# Altium footprint library Maxim Footprints.PcbLib: 105 footprints (part 5 of 7)
Each footprint in its own frame and in the unit in brackets; x right, y up, seen from the top. Pads: shape width x height; smd on the part's side, far side on the other; paste and mask are expansions set on the pad; w line width, h text height; cw(c..) or ccw(c..) is an arc to the next point about the centre after c.
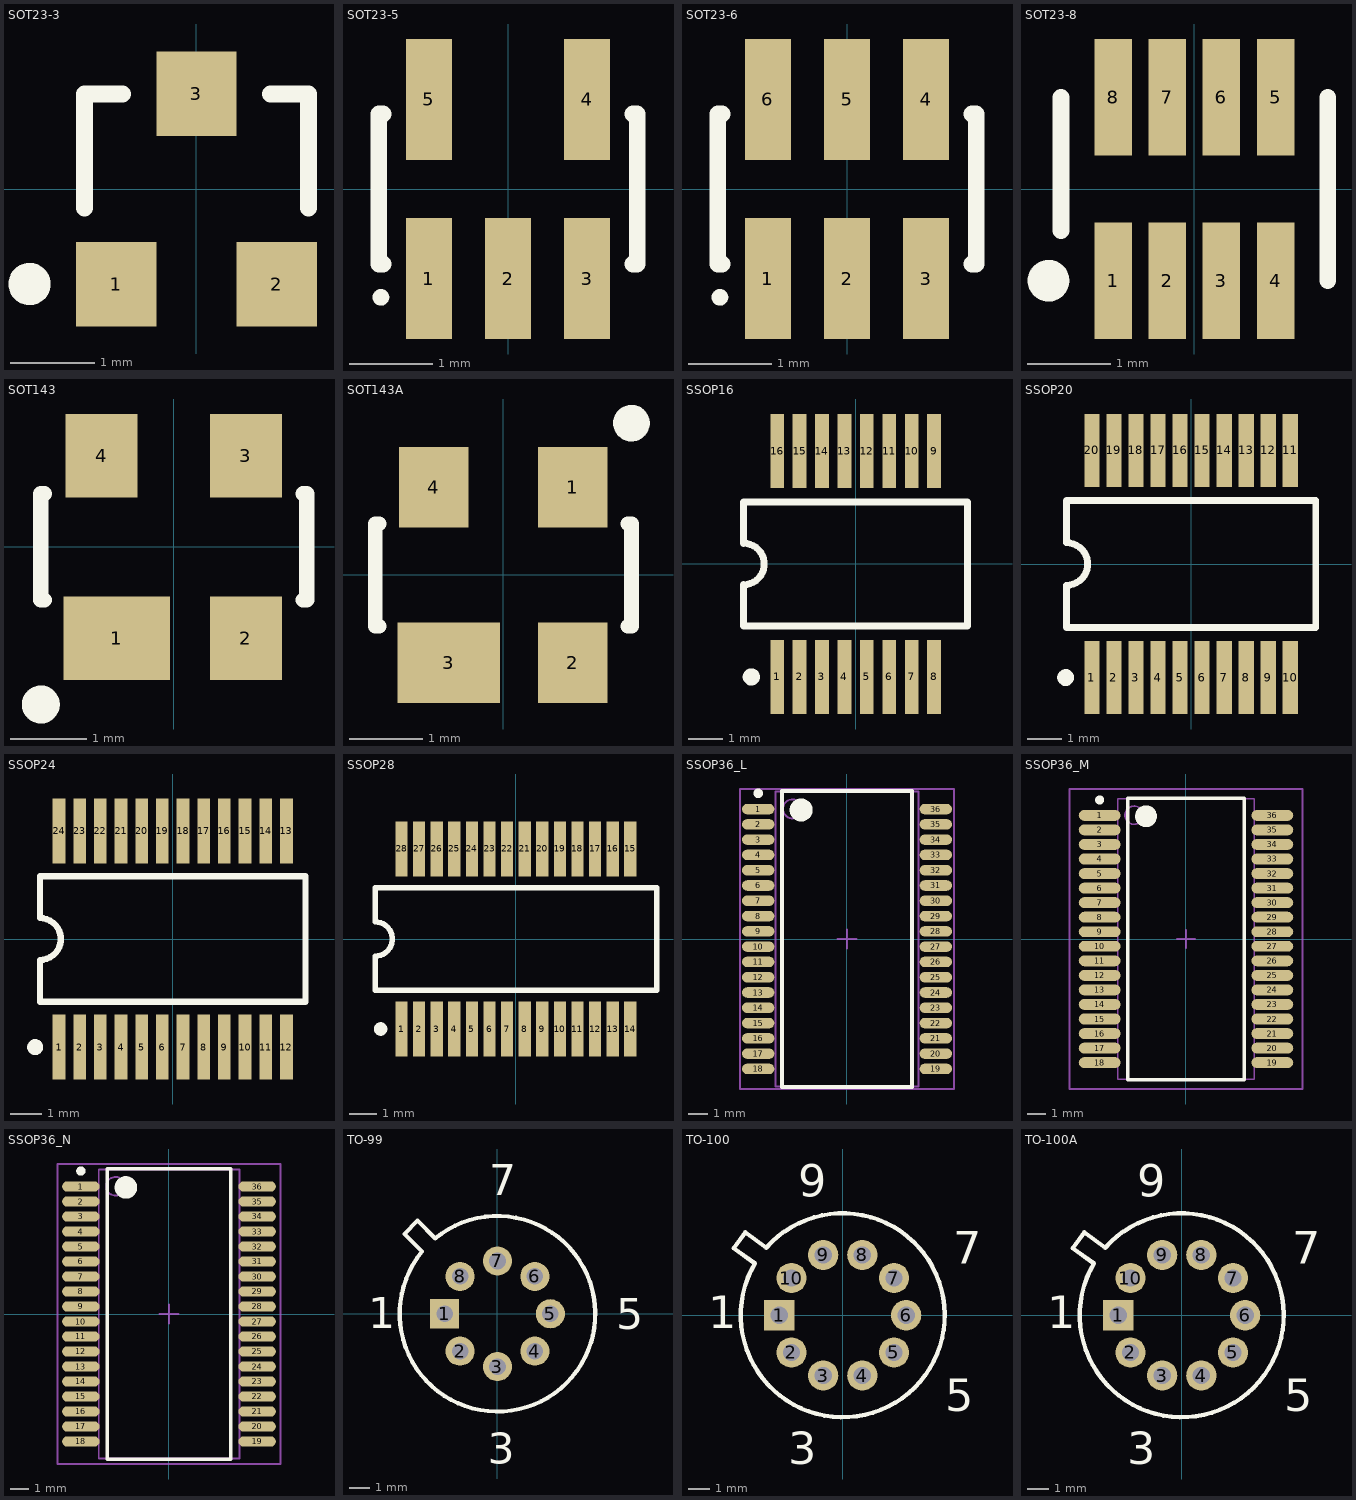
[diagram p4: the footprints below, top view; thin cyan lines are the x and y axes]

## SOT23-3 [mm] "SOT-23; 3 Leads; Body 3.0 x 2.5 mm, inc. leads (LxW max)"
height 1.2
pads (3):
  rect 0.95x1 smd: 1(-0.95,-1.125) 2(0.95,-1.125) 3(0,1.125)
Top Overlay:
  circle w0.25: c-1.975,-1.125 r0.125
  lines w0.2: -1.328,1.125 -0.875,1.125 ; -1.325,-0.225 -1.325,1.125 ; 0.875,1.125 1.325,1.125 1.325,-0.225

## SOT23-5 [mm] "SOT-23/SC-74A; 5 Leads; Body 3 x 3 mm, inc. leads (LxW max)"
height 1.45
pads (5):
  rect 0.55x1.45 smd: 1(-0.95,-1.075) 2(0,-1.075) 3(0.95,-1.075) 4(0.95,1.075) 5(-0.95,1.075)
Top Overlay:
  circle w0.1: c-1.525,-1.3 r0.05
  lines w0.2: -1.5,-0.9 -1.55,-0.9 -1.55,0.9 -1.5,0.9 ; 1.5,-0.9 1.55,-0.9 1.55,0.9 1.5,0.9

## SOT23-6 [mm] "SOT-457/SC-74; 6 Leads; Body 3 x 3 mm, inc. leads (LxW max)"
height 1.45
pads (6):
  rect 0.55x1.45 smd: 1(-0.95,-1.075) 2(0,-1.075) 3(0.95,-1.075) 4(0.95,1.075) 5(0,1.075) 6(-0.95,1.075)
Top Overlay:
  circle w0.1: c-1.525,-1.3 r0.05
  lines w0.2: -1.5,-0.9 -1.55,-0.9 -1.55,0.9 -1.5,0.9 ; 1.5,-0.9 1.55,-0.9 1.55,0.9 1.5,0.9

## SOT23-8 [mm] "SSOP; 8 Leads; Body Width 1.6 mm; Pitch 0.65 mm"
height 1.45
pads (8):
  rect 0.45x1.4 smd: 1(-0.975,-1.1) 2(-0.325,-1.1) 3(0.325,-1.1) 4(0.975,-1.1) 5(0.975,1.1) 6(0.325,1.1) 7(-0.325,1.1) 8(-0.975,1.1)
Top Overlay:
  circle w0.25: c-1.75,-1.1 r0.125
  lines w0.2: -1.6,-0.5 -1.6,1.1 ; 1.6,-1.1 1.6,1.1

## SOT143 [mm] "SOT-143; 4 Leads; Body 3 x 2.5 mm, inc. leads (LxW max)"
height 1.2
pads (4):
  rect 1.4x1.1 smd: 1(-0.75,-1.2)
  rect 0.95x1.1 smd: 2(0.95,-1.2) 3(0.95,1.2) 4(-0.95,1.2)
Top Overlay:
  circle w0.25: c-1.75,-2.075 r0.125
  lines w0.2: -1.7,-0.7 -1.75,-0.7 -1.75,0.7 -1.7,0.7 ; 1.7,-0.7 1.75,-0.7 1.75,0.7 1.7,0.7

## SOT143A [mm] "SOT-143; 4 Leads; Body 3 x 2.5 mm, inc. leads (LxW max)"
height 1.2
pads (4):
  rect 0.95x1.1 smd: 1(0.95,1.2) 2(0.95,-1.2) 4(-0.95,1.2)
  rect 1.4x1.1 smd: 3(-0.75,-1.2)
Top Overlay:
  circle w0.25: c1.75,2.075 r0.125
  lines w0.2: -1.7,-0.7 -1.75,-0.7 -1.75,0.7 -1.7,0.7 ; 1.7,-0.7 1.75,-0.7 1.75,0.7 1.7,0.7

## SSOP16 [mm] "SSOP; 16 Leads; Body Width 5.3 mm; Pitch 0.65 mm"
height 1.99
pads (16):
  rect 0.4x2.15 smd: 1(-2.275,-3.275) 2(-1.625,-3.275) 3(-0.975,-3.275) 4(-0.325,-3.275) 5(0.325,-3.275) 6(0.975,-3.275) 7(1.625,-3.275) 8(2.275,-3.275) 9(2.275,3.275) 10(1.625,3.275) 11(0.975,3.275) 12(0.325,3.275) 13(-0.325,3.275) 14(-0.975,3.275) 15(-1.625,3.275) 16(-2.275,3.275)
Top Overlay:
  circle w0.25: c-3.025,-3.275 r0.125
  lines w0.2: -3.25,-1.8 3.25,-1.8 3.25,1.8 -3.25,1.8 -3.25,0.6 cw(c-3.25,0) -3.25,-0.6 -3.25,-1.8

## SSOP20 [mm] "SSOP; 20 Leads; Body Width 5.3 mm; Pitch 0.65 mm"
height 1.99
pads (20):
  rect 0.45x2.15 smd: 1(-2.925,-3.35) 2(-2.275,-3.35) 3(-1.625,-3.35) 4(-0.975,-3.35) 5(-0.325,-3.35) 6(0.325,-3.35) 7(0.975,-3.35) 8(1.625,-3.35) 9(2.275,-3.35) 10(2.925,-3.35) 11(2.925,3.35) 12(2.275,3.35) 13(1.625,3.35) 14(0.975,3.35) 15(0.325,3.35) 16(-0.325,3.35) 17(-0.975,3.35) 18(-1.625,3.35) 19(-2.275,3.35) 20(-2.925,3.35)
Top Overlay:
  circle w0.25: c-3.7,-3.35 r0.125
  lines w0.2: -3.675,-1.875 -3.675,-0.625 ccw(c-3.675,0) -3.675,0.625 -3.675,1.875 3.675,1.875 3.675,-1.875 -3.675,-1.875

## SSOP24 [mm] "SSOP; 24 Leads; Body Width 5.3 mm; Pitch 0.65 mm"
height 1.99
pads (24):
  rect 0.4x2.05 smd: 1(-3.575,-3.4) 2(-2.925,-3.4) 3(-2.275,-3.4) 4(-1.625,-3.4) 5(-0.975,-3.4) 6(-0.325,-3.4) 7(0.325,-3.4) 8(0.975,-3.4) 9(1.625,-3.4) 10(2.275,-3.4) 11(2.925,-3.4) 12(3.575,-3.4) 13(3.575,3.4) 14(2.925,3.4) 15(2.275,3.4) 16(1.625,3.4) 17(0.975,3.4) 18(0.325,3.4) 19(-0.325,3.4) 20(-0.975,3.4) 21(-1.625,3.4) 22(-2.275,3.4) 23(-2.925,3.4) 24(-3.575,3.4)
Top Overlay:
  circle w0.25: c-4.325,-3.4 r0.125
  lines w0.2: -4.175,-1.975 -4.175,-0.658 ccw(c-4.175,0) -4.175,0.658 -4.175,1.975 4.175,1.975 4.175,-1.975 -4.175,-1.975

## SSOP28 [mm] "SSOP; 28 Leads; Body Width 5.3 mm; Pitch 0.65 mm"
height 1.99
pads (28):
  rect 0.45x2.05 smd: 1(-4.225,-3.325) 2(-3.575,-3.325) 3(-2.925,-3.325) 4(-2.275,-3.325) 5(-1.625,-3.325) 6(-0.975,-3.325) 7(-0.325,-3.325) 8(0.325,-3.325) 9(0.975,-3.325) 10(1.625,-3.325) 11(2.275,-3.325) 12(2.925,-3.325) 13(3.575,-3.325) 14(4.225,-3.325) 15(4.225,3.325) 16(3.575,3.325) 17(2.925,3.325) 18(2.275,3.325) 19(1.625,3.325) 20(0.975,3.325) 21(0.325,3.325) 22(-0.325,3.325) 23(-0.975,3.325) 24(-1.625,3.325) 25(-2.275,3.325) 26(-2.925,3.325) 27(-3.575,3.325) 28(-4.225,3.325)
Top Overlay:
  circle w0.25: c-5,-3.325 r0.125
  lines w0.2: -5.2,-1.9 -5.2,-0.633 ccw(c-5.2,0) -5.2,0.633 -5.2,1.9 5.2,1.9 5.2,-1.9 -5.2,-1.9

## SSOP36_L [mm] "36-Pin Small Outline Package 0.8 mm Pitch, IPC High Density"
height 2.65
pads (36):
  oval 1.7x0.55 smd: 1(-4.65,6.8) 2(-4.65,6) 3(-4.65,5.2) 4(-4.65,4.4) 5(-4.65,3.6) 6(-4.65,2.8) 7(-4.65,2) 8(-4.65,1.2) 9(-4.65,0.4) 10(-4.65,-0.4) 11(-4.65,-1.2) 12(-4.65,-2) 13(-4.65,-2.8) 14(-4.65,-3.6) 15(-4.65,-4.4) 16(-4.65,-5.2) 17(-4.65,-6) 18(-4.65,-6.8) 19(4.65,-6.8) 20(4.65,-6) 21(4.65,-5.2) 22(4.65,-4.4) 23(4.65,-3.6) 24(4.65,-2.8) 25(4.65,-2) 26(4.65,-1.2) 27(4.65,-0.4) 28(4.65,0.4) 29(4.65,1.2) 30(4.65,2) 31(4.65,2.8) 32(4.65,3.6) 33(4.65,4.4) 34(4.65,5.2) 35(4.65,6) 36(4.65,6.8)
Top Overlay:
  circle w0.6: c-2.4,6.75 r0.3
  circle w0.25: c-4.65,7.625 r0.125
  lines w0.2: -3.4,-7.75 3.4,-7.75 3.4,7.75 -3.4,7.75 -3.4,-7.75
Mechanical 13:
  circle w0.1: c-2.85,6.81 r0.5
  lines w0.1: -3.75,-7.71 3.75,-7.71 3.75,7.71 -3.75,7.71 -3.75,-7.71
Mechanical 15:
  lines w0.1: -0.5,0 0.5,0 ; 0,-0.5 0,0.5 ; -5.6,-7.85 5.6,-7.85 5.6,7.85 -5.6,7.85 -5.6,-7.85
3D body: height 2.65, standoff 0, extent -3.75,-7.71 3.75,7.71

## SSOP36_M [mm] "36-Pin Small Outline Package 0.8 mm Pitch, IPC Low Density"
height 2.65
pads (36):
  oval 2.3x0.6 smd: 1(-4.75,6.8) 2(-4.75,6) 3(-4.75,5.2) 4(-4.75,4.4) 5(-4.75,3.6) 6(-4.75,2.8) 7(-4.75,2) 8(-4.75,1.2) 9(-4.75,0.4) 10(-4.75,-0.4) 11(-4.75,-1.2) 12(-4.75,-2) 13(-4.75,-2.8) 14(-4.75,-3.6) 15(-4.75,-4.4) 16(-4.75,-5.2) 17(-4.75,-6) 18(-4.75,-6.8) 19(4.75,-6.8) 20(4.75,-6) 21(4.75,-5.2) 22(4.75,-4.4) 23(4.75,-3.6) 24(4.75,-2.8) 25(4.75,-2) 26(4.75,-1.2) 27(4.75,-0.4) 28(4.75,0.4) 29(4.75,1.2) 30(4.75,2) 31(4.75,2.8) 32(4.75,3.6) 33(4.75,4.4) 34(4.75,5.2) 35(4.75,6) 36(4.75,6.8)
Top Overlay:
  circle w0.25: c-4.75,7.65 r0.125
  circle w0.6: c-2.2,6.75 r0.3
  lines w0.2: -3.2,-7.75 -3.2,7.75 3.2,7.75 3.2,-7.75 -3.2,-7.75
Mechanical 13:
  circle w0.1: c-2.85,6.81 r0.5
  lines w0.1: -3.75,-7.71 -3.75,7.71 3.75,7.71 3.75,-7.71 -3.75,-7.71
Mechanical 15:
  lines w0.1: -0.5,0 0.5,0 ; 0,-0.5 0,0.5 ; -6.4,-8.25 -6.4,8.25 6.4,8.25 6.4,-8.25 -6.4,-8.25
3D body: height 2.65, standoff 0, extent -3.75,-7.71 3.75,7.71

## SSOP36_N [mm] "36-Pin Small Outline Package 0.8 mm Pitch, IPC Medium Density"
height 2.65
pads (36):
  oval 2x0.55 smd: 1(-4.7,6.8) 2(-4.7,6) 3(-4.7,5.2) 4(-4.7,4.4) 5(-4.7,3.6) 6(-4.7,2.8) 7(-4.7,2) 8(-4.7,1.2) 9(-4.7,0.4) 10(-4.7,-0.4) 11(-4.7,-1.2) 12(-4.7,-2) 13(-4.7,-2.8) 14(-4.7,-3.6) 15(-4.7,-4.4) 16(-4.7,-5.2) 17(-4.7,-6) 18(-4.7,-6.8) 19(4.7,-6.8) 20(4.7,-6) 21(4.7,-5.2) 22(4.7,-4.4) 23(4.7,-3.6) 24(4.7,-2.8) 25(4.7,-2) 26(4.7,-1.2) 27(4.7,-0.4) 28(4.7,0.4) 29(4.7,1.2) 30(4.7,2) 31(4.7,2.8) 32(4.7,3.6) 33(4.7,4.4) 34(4.7,5.2) 35(4.7,6) 36(4.7,6.8)
Top Overlay:
  circle w0.6: c-2.3,6.75 r0.3
  circle w0.25: c-4.7,7.625 r0.125
  lines w0.2: -3.3,-7.75 3.3,-7.75 3.3,7.75 -3.3,7.75 -3.3,-7.75
Mechanical 13:
  circle w0.1: c-2.85,6.81 r0.5
  lines w0.1: -3.75,-7.71 3.75,-7.71 3.75,7.71 -3.75,7.71 -3.75,-7.71
Mechanical 15:
  lines w0.1: -0.5,0 0.5,0 ; 0,-0.5 0,0.5 ; -5.95,-8 5.95,-8 5.95,8 -5.95,8 -5.95,-8
3D body: height 2.65, standoff 0, extent -3.75,-7.71 3.75,7.71

## TO-99 [mm] "Can; 8 Leads; Pin Circle Dia. 5.08 mm; Lead Dia. 0.48 mm (max)"
height 4.7
pads (8):
  rect 1.4x1.4 hole 0.8: 1(-2.54,0)
  round 1.4 hole 0.8: 2(-1.796,-1.796) 3(0,-2.54) 4(1.796,-1.796) 5(2.54,0) 6(1.796,1.796) 7(0,2.54) 8(-1.796,1.796)
Top Overlay:
  lines w0.2: -4.475,3.838 -3.838,4.475 -2.99,3.626 cw(c0,0) -3.626,2.99 -4.475,3.838
  text "1" at -6.201,-0.697 h1.5
  text "3" at -0.469,-7.22 h1.5
  text "5" at 5.713,-0.751 h1.5
  text "7" at -0.397,5.7 h1.5

## TO-100 [mm] "Can; 10 Leads; Pin Circle Dia. 5.84 mm; Lead Dia. 0.48 mm (max)"
height 4.7
pads (10):
  rect 1.4x1.4 hole 0.8: 1(-2.92,0)
  round 1.4 hole 0.8: 2(-2.362,-1.716) 3(-0.902,-2.777) 4(0.902,-2.777) 5(2.362,-1.716) 6(2.92,0) 7(2.362,1.716) 8(0.902,2.777) 9(-0.902,2.777) 10(-2.362,1.716)
Top Overlay:
  lines w0.2: -4.049,2.386 -5.02,3.091 -4.491,3.819 -3.52,3.114 cw(c0,0) -4.049,2.386
  text "1" at -6.207,-0.592 h1.5
  text "3" at -2.511,-6.856 h1.5
  text "5" at 4.736,-4.434 h1.5
  text "7" at 5.1,2.376 h1.5
  text "9" at -2.056,5.471 h1.5

## TO-100A [mm] "Can; 10 Leads; Pin Circle Dia. 5.84 mm; Lead Dia. 0.48 mm (max)"
height 4.7
pads (10):
  rect 1.4x1.4 hole 0.8: 1(-2.92,0)
  round 1.4 hole 0.8: 2(-2.362,-1.716) 3(-0.902,-2.777) 4(0.902,-2.777) 5(2.362,-1.716) 6(2.92,0) 7(2.362,1.716) 8(0.902,2.777) 9(-0.902,2.777) 10(-2.362,1.716)
Top Overlay:
  lines w0.2: -4.049,2.386 -5.02,3.091 -4.491,3.819 -3.52,3.114 cw(c0,0) -4.049,2.386
  text "1" at -6.207,-0.592 h1.5
  text "3" at -2.511,-6.856 h1.5
  text "5" at 4.736,-4.434 h1.5
  text "7" at 5.1,2.376 h1.5
  text "9" at -2.056,5.471 h1.5